# Altium footprint library THD.PcbLib: 24 footprints (part 2 of 2)
Each footprint in its own frame and in the unit in brackets; x right, y up, seen from the top. Pads: shape width x height; smd on the part's side, far side on the other; paste and mask are expansions set on the pad; w line width, h text height; cw(c..) or ccw(c..) is an arc to the next point about the centre after c.
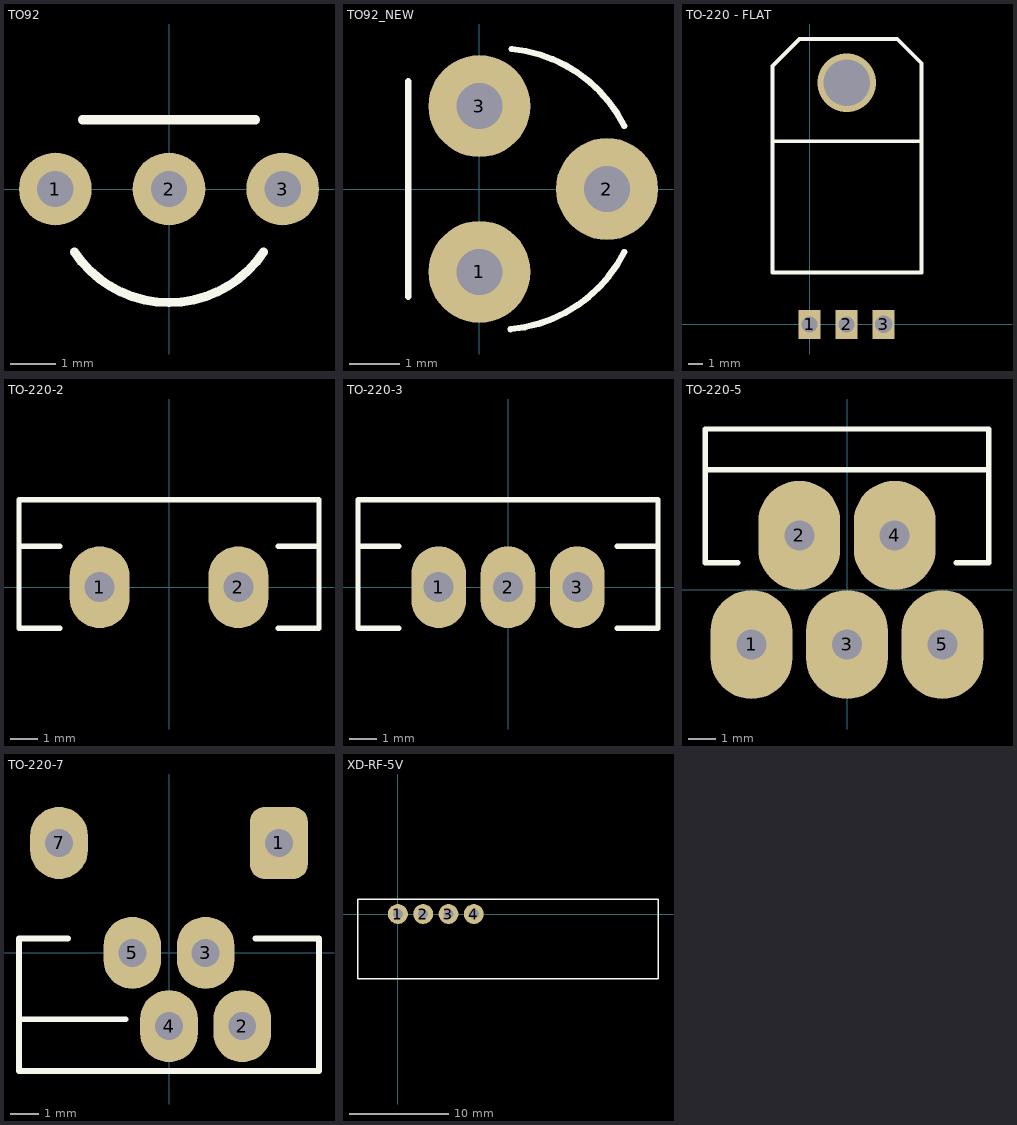
[diagram p1: the footprints below, top view; thin cyan lines are the x and y axes]

## TO92 [mm]
pads (3):
  round 1.6 hole 0.8: 1(-2.5,0) 2(0,0) 3(2.5,0)
Top Overlay:
  lines w0.2: -2.08,-1.387 ccw(c0,0) 2.08,-1.387 ; -1.905,1.524 1.905,1.524
3D body "User Library-TO92.step": height 6.7, standoff -4.6, extent -2.765,-2.528 2.765,1.55

## TO92_NEW [mil]
height 397.64
pads (3):
  round 80 hole 36: 1(0,-65) 2(100,0) 3(0,65)
Top Overlay:
  lines w5: -55.86,-84.45 -55.86,84.45 ; 24.32,-109.84 ccw(c15,0) 113.55,-49.39 ; 25.2,109.76 cw(c15,0) 113.55,49.39
3D body "TO-92_A.stp": height 404.72, standoff -100, extent -54.52,-94.57 107.49,94.56

## TO-220 - FLAT [mm]
pads (3):
  rect 1.5x2 hole 1.1: 1(0,0) 2(2.54,0)
  rect 1.5x2 hole 1.2: 3(5.08,0)
via 2.54,16.562 diameter 4 hole 3.2
Top Overlay:
  lines w0.254: -2.54,5.861 -2.54,17.71 -0.686,19.564 6.007,19.564 7.671,17.901 7.671,3.562 -2.54,3.562 -2.54,12.554 7.671,12.554
3D body "TO220_NAM.step": height 4.45, standoff -1.79, extent -2.54,-0.19 7.62,19.09

## TO-220-2 [mm]
pads (2):
  oval 2.2x3 hole 1.1: 1(-2.54,0) 2(2.54,0)
Top Overlay:
  lines w0.2: -5.5,1.5 -4,1.5 ; -4,-1.5 -5.5,-1.5 -5.5,3.2 5.5,3.2 5.5,-1.5 4,-1.5 ; 4,1.5 5.5,1.5
3D body "User Library-TO220-2_V-L.STEP": height 19.5, standoff -10, extent -5,-1.77 5,2.74

## TO-220-3 [mm]
pads (3):
  oval 2x3 hole 1.1: 1(-2.54,0) 2(0,0) 3(2.54,0)
Top Overlay:
  lines w0.2: -5.5,1.5 -4,1.5 ; -4,-1.5 -5.5,-1.5 -5.5,3.2 5.5,3.2 5.5,-1.5 4,-1.5 ; 4,1.5 5.5,1.5
3D body "TO220AB.STEP": height 19.33, standoff -10, extent -5.607,-1.5 5.607,3.19

## TO-220-5 [mm]
pads (5):
  oval 3x4 hole 1.1: 1(-3.5,-2) 2(-1.75,2) 3(0,-2) 4(1.75,2) 5(3.5,-2)
Top Overlay:
  lines w0.2: -5.2,4.4 5.2,4.4 ; -4,1 -5.2,1 -5.2,5.9 5.2,5.9 5.2,1 4,1
3D body "PENTAWATT.STEP": height 21.08, standoff -4.22, extent -5.2,-2.159 5.2,5.915

## TO-220-7 [mm]
pads (6):
  rrect50% 2x2.5 hole 0.965: 1(3.81,3.81)
  oval 2x2.5 hole 0.965: 2(2.54,-2.54) 3(1.27,0) 4(0,-2.54) 5(-1.27,0) 7(-3.81,3.81)
Top Overlay:
  lines w0.2: -5.2,-2.3 -1.5,-2.3 ; -3.5,0.5 -5.2,0.5 -5.2,-4.1 5.2,-4.1 5.2,0.5 3,0.5
3D body "User Library-TO-220-7C.step": height 19.94, standoff -1.5, extent -5.2,-4.1 5.2,4.03

## XD-RF-5V [mm]
pads (4):
  round 2 hole 1 unplated: 1(0,0) 2(2.54,0) 3(5.08,0) 4(7.62,0)
Top Overlay:
  lines w0.15: -4,-6.5 -4,1.5 26.1,1.5 26.1,-6.5 -4,-6.5
3D body "User Library-XD-RF-5V.STEP": height 14.01, standoff -4.99, extent -3.92,-6.5 26.08,1.5